# Altium schematic symbol library TC2030-IDC.Schlib: 1 symbol
Pins are listed as number, name and electrical type; pins without a type are passive.

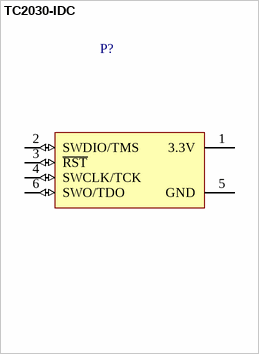
[diagram p0: symbol TC2030-IDC]

## TC2030-IDC
designator P?  (no BOM)
6Pin Tag Connector for MCU Programming
pins: 1 3.3V (power), 2 SWDIO/TMS (io), 3 ~{RST} (io), 4 SWCLK/TCK (io), 5 GND (power), 6 SWO/TDO (io)